# Altium footprint library HS_HS96L03W2C03.PcbLib: 1 footprints
Each footprint in its own frame and in the unit in brackets; x right, y up, seen from the top. Pads: shape width x height; smd on the part's side, far side on the other; paste and mask are expansions set on the pad; w line width, h text height; cw(c..) or ccw(c..) is an arc to the next point about the centre after c.
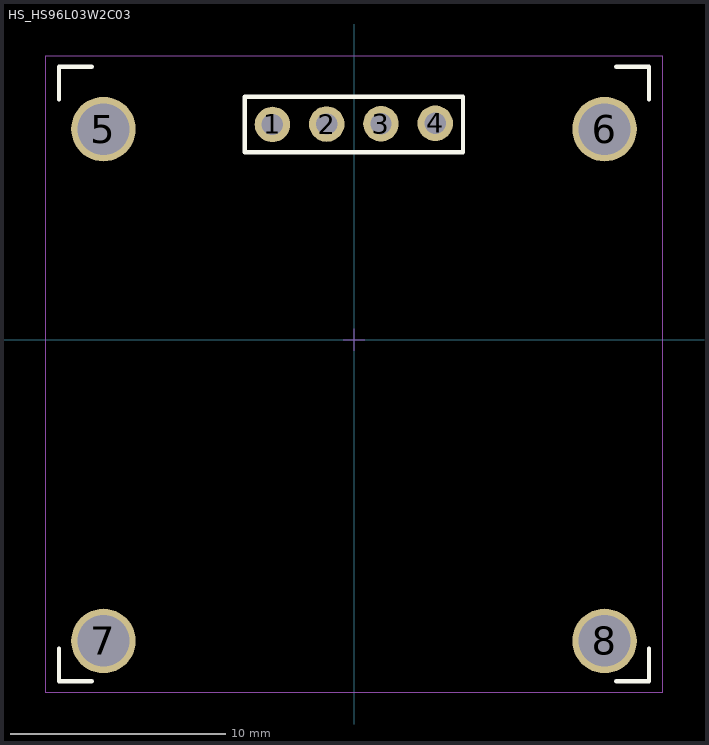
[diagram p0: the footprint, top view; thin cyan lines are the x and y axes]

## HS_HS96L03W2C03 [mm]
pads (8):
  round 1.651 hole 0.991: 1(-3.795,10.015) 2(-1.27,10.033) 3(1.255,10.051) 4(3.779,10.068)
  round 3 hole 2.4: 5(-11.65,9.8) 6(11.65,9.8) 7(-11.65,-14) 8(11.65,-14)
Top Overlay:
  lines w0.2: -13.716,-14.351 -13.716,-15.875 -12.192,-15.875 ; -13.716,11.176 -13.716,12.7 -12.192,12.7 ; 12.192,-15.875 13.716,-15.875 13.716,-14.351 ; 12.192,12.7 13.716,12.7 13.716,11.176 ; -5.08,8.728 -5.08,11.303 5.067,11.303 5.067,8.728 -5.08,8.728
Mechanical 15:
  lines w0.05: -0.508,0 0.508,0 ; 0,-0.508 0,0.508 ; -14.351,-16.383 -14.351,13.208 14.351,13.208 14.351,-16.383 -14.351,-16.383
3D body "OLED-128x64-0.96.step": height 9.06, standoff -1.79, extent -13.34,-15.479 13.36,12.381